# EAGLE library part LOGIC,TOUCH_SENSOR(AT42QT1070) (library QuantumOptics)
AT42QT1070 Atmel, 7-channel touch sensor, SPI or 5-ch standalone.
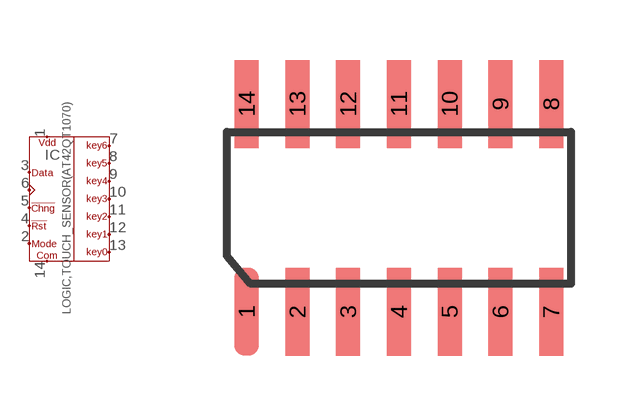
[diagram p193: symbol with the pads of SOIC-14; footprint SOIC-14]

Designator prefix IC

## LOGIC,TOUCH_SENSOR(AT42QT1070)-SO14  [SOIC-14]
1  VDD
2  MODE  in
3  SDAT  in
4  !RESET  in
5  !CHANGE
6  SCLK  in
7  K6  in
8  K5  in
9  K4  in
10  K3  in
11  K2  in
12  K1  in
13  K0  in
14  COM

## Footprint SOIC-14 (pad centres in mm)
Small Outline Package 14
smd 0.6 x 2.2: 1 -3.81,-2.6; 2 -2.54,-2.6; 3 -1.27,-2.6; 4 0,-2.6; 5 1.27,-2.6; 6 2.54,-2.6; 7 3.81,-2.6; 8 3.81,2.6; 9 2.54,2.6; 10 1.27,2.6; 11 0,2.6; 12 -1.27,2.6; 13 -2.54,2.6; 14 -3.81,2.6